# EAGLE library part LPCXPRESSO_LPC1769 (library LPCXpresso_LPC1769_board)
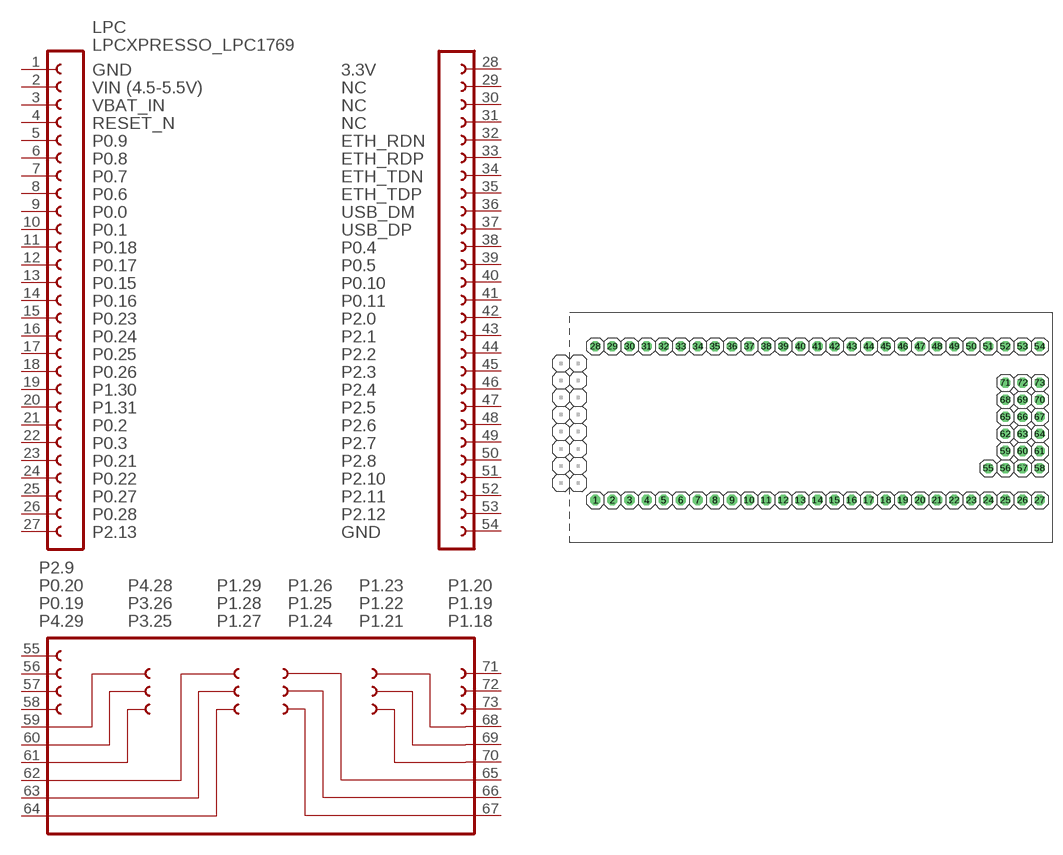
[diagram p3: symbol with the pads of LPCXPRESSO_LPC1769; footprint LPCXPRESSO_LPC1769]

Designator prefix LPC

## LPCXPRESSO_LPC1769  [LPCXPRESSO_LPC1769]
1  1  pas
2  2  pas
3  3  pas
4  4  pas
5  5  pas
6  6  pas
7  7  pas
8  8  pas
9  9  pas
10  10  pas
11  11  pas
12  12  pas
13  13  pas
14  14  pas
15  15  pas
16  16  pas
17  17  pas
18  18  pas
19  19  pas
20  20  pas
21  21  pas
22  22  pas
23  23  pas
24  24  pas
25  25  pas
26  26  pas
27  27  pas
28  28  pas
29  29  pas
30  30  pas
31  31  pas
32  32  pas
33  33  pas
34  34  pas
35  35  pas
36  36  pas
37  37  pas
38  38  pas
39  39  pas
40  40  pas
41  41  pas
42  42  pas
43  43  pas
44  44  pas
45  45  pas
46  46  pas
47  47  pas
48  48  pas
49  49  pas
50  50  pas
51  51  pas
52  52  pas
53  53  pas
54  54  pas
55  55  pas
56  56  pas
57  57  pas
58  58  pas
59  59  pas
60  60  pas
61  61  pas
62  62  pas
63  63  pas
64  64  pas
65  65  pas
66  66  pas
67  67  pas
68  68  pas
69  69  pas
70  70  pas
71  71  pas
72  72  pas
73  73  pas

## Footprint LPCXPRESSO_LPC1769 (pad centres in mm)
drill 1 octagon: 1 -31.115,-12.065; 2 -28.575,-12.065; 3 -26.035,-12.065; 4 -23.495,-12.065; 5 -20.955,-12.065; 6 -18.415,-12.065; 7 -15.875,-12.065; 8 -13.335,-12.065; 9 -10.795,-12.065; 10 -8.255,-12.065; 11 -5.715,-12.065; 12 -3.175,-12.065; 13 -0.635,-12.065; 14 1.905,-12.065; 15 4.445,-12.065; 16 6.985,-12.065; 17 9.525,-12.065; 18 12.065,-12.065; 19 14.605,-12.065; 20 17.145,-12.065; 21 19.685,-12.065; 22 22.225,-12.065; 23 24.765,-12.065; 24 27.305,-12.065; 25 29.845,-12.065; 26 32.385,-12.065; 27 34.925,-12.065; 28 -31.115,10.795; 29 -28.575,10.795; 30 -26.035,10.795; 31 -23.495,10.795; 32 -20.955,10.795; 33 -18.415,10.795; 34 -15.875,10.795; 35 -13.335,10.795; 36 -10.795,10.795; 37 -8.255,10.795; 38 -5.715,10.795; 39 -3.175,10.795; 40 -0.635,10.795; 41 1.905,10.795; 42 4.445,10.795; 43 6.985,10.795; 44 9.525,10.795; 45 12.065,10.795; 46 14.605,10.795; 47 17.145,10.795; 48 19.685,10.795; 49 22.225,10.795; 50 24.765,10.795; 51 27.305,10.795; 52 29.845,10.795; 53 32.385,10.795; 54 34.925,10.795; 55 27.305,-7.315; 56 29.845,-7.315; 57 32.385,-7.315; 58 34.925,-7.315; 59 29.845,-4.775; 60 32.385,-4.775; 61 34.925,-4.775; 62 29.845,-2.235; 63 32.385,-2.235; 64 34.925,-2.235; 65 29.845,0.305; 66 32.385,0.305; 67 34.925,0.305; 68 29.845,2.845; 69 32.385,2.845; 70 34.925,2.845; 71 29.845,5.385; 72 32.385,5.385; 73 34.925,5.385